# Altium footprint library SARA-XX.PcbLib: 1 footprints
Each footprint in its own frame and in the unit in brackets; x right, y up, seen from the top. Pads: shape width x height; smd on the part's side, far side on the other; paste and mask are expansions set on the pad; w line width, h text height; cw(c..) or ccw(c..) is an arc to the next point about the centre after c.
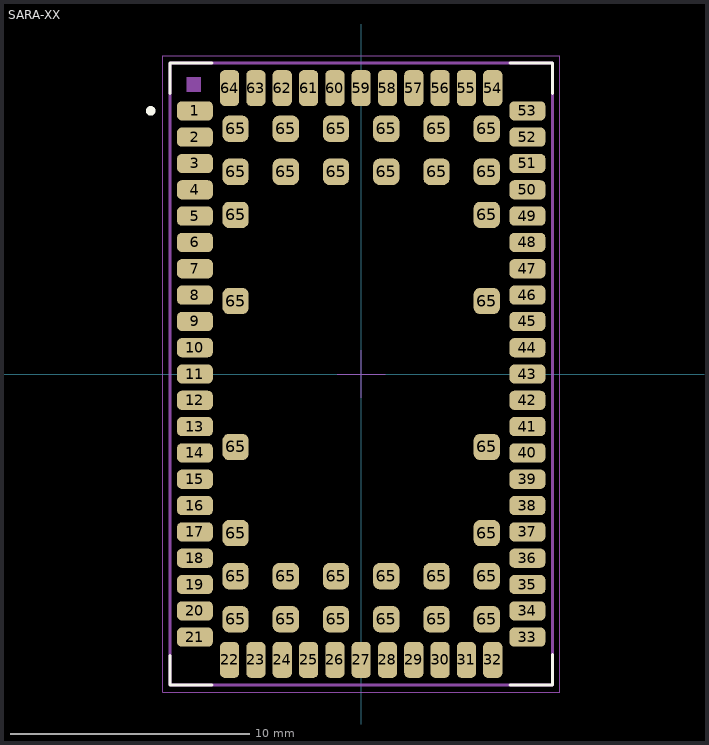
[diagram p0: the footprint, top view; thin cyan lines are the x and y axes]

## SARA-XX [mm]
pads (96):
  rrect50% 1.5x0.8 smd paste-0.025: 1(-6.95,11) 2(-6.95,9.9) 3(-6.95,8.8) 4(-6.95,7.7) 5(-6.95,6.6) 6(-6.95,5.5) 7(-6.95,4.4) 8(-6.95,3.3) 9(-6.95,2.2) 10(-6.95,1.1) 11(-6.95,0) 12(-6.95,-1.1) 13(-6.95,-2.2) 14(-6.95,-3.3) 15(-6.95,-4.4) 16(-6.95,-5.5) 17(-6.95,-6.6) 18(-6.95,-7.7) 19(-6.95,-8.8) 20(-6.95,-9.9) 21(-6.95,-11) 33(6.95,-11) 34(6.95,-9.9) 35(6.95,-8.8) 36(6.95,-7.7) 37(6.95,-6.6) 38(6.95,-5.5) 39(6.95,-4.4) 40(6.95,-3.3) 41(6.95,-2.2) 42(6.95,-1.1) 43(6.95,0) 44(6.95,1.1) 45(6.95,2.2) 46(6.95,3.3) 47(6.95,4.4) 48(6.95,5.5) 49(6.95,6.6) 50(6.95,7.7) 51(6.95,8.8) 52(6.95,9.9) 53(6.95,11)
  rrect50% 0.8x1.5 smd paste-0.025: 22(-5.5,-11.95) 23(-4.4,-11.95) 24(-3.3,-11.95) 25(-2.2,-11.95) 26(-1.1,-11.95) 27(0,-11.95) 28(1.1,-11.95) 29(2.2,-11.95) 30(3.3,-11.95) 31(4.4,-11.95) 32(5.5,-11.95) 54(5.5,11.95) 55(4.4,11.95) 56(3.3,11.95) 57(2.2,11.95) 58(1.1,11.95) 59(0,11.95) 60(-1.1,11.95) 61(-2.2,11.95) 62(-3.3,11.95) 63(-4.4,11.95) 64(-5.5,11.95)
  rrect50% 1.1x1.1 smd paste-0.025: 65(-5.25,-10.25) 65(-5.25,-8.45) 65(-5.25,-6.65) 65(-5.25,-3.05) 65(-5.25,3.05) 65(-5.25,6.65) 65(-5.25,8.45) 65(-5.25,10.25) 65(-3.15,-10.25) 65(-3.15,-8.45) 65(-3.15,8.45) 65(-3.15,10.25) 65(-1.05,-10.25) 65(-1.05,-8.45) 65(-1.05,8.45) 65(-1.05,10.25) 65(1.05,-10.25) 65(1.05,-8.45) 65(1.05,8.45) 65(1.05,10.25) 65(3.15,-10.25) 65(3.15,-8.45) 65(3.15,8.45) 65(3.15,10.25) 65(5.25,-10.25) 65(5.25,-8.45) 65(5.25,-6.65) 65(5.25,-3.05) 65(5.25,3.05) 65(5.25,6.65) 65(5.25,8.45) 65(5.25,10.25)
Top Overlay:
  circle w0.2: c-8.8,11 r0.1
  lines w0.127: -8,-11.77 -8,-13 -6.23,-13 ; -8,11.73 -8,13 -6.23,13 ; 6.23,-13 8,-13 8,-11.73 ; 6.23,13 8,13 8,11.73
Top Assembly:
  region: -6.7,11.8 -7.3,11.8 -7.3,12.4 -6.7,12.4
  lines w0.127: -8,-13 -8,13 8,13 8,-13 -8,-13
Top Courtyard:
  lines w0.05: -1,0 1,0 ; 0,-1 0,1 ; -8.3,-13.3 8.3,-13.3 8.3,13.3 -8.3,13.3 -8.3,-13.3
3D body "User Library-UBLOX_SARA_R5.step": height 2.2, standoff 0, extent -8,-13 8,13